# Altium footprint library MEM20850011500A.PcbLib: 1 footprints
Each footprint in its own frame and in the unit in brackets; x right, y up, seen from the top. Pads: shape width x height; smd on the part's side, far side on the other; paste and mask are expansions set on the pad; w line width, h text height; cw(c..) or ccw(c..) is an arc to the next point about the centre after c.
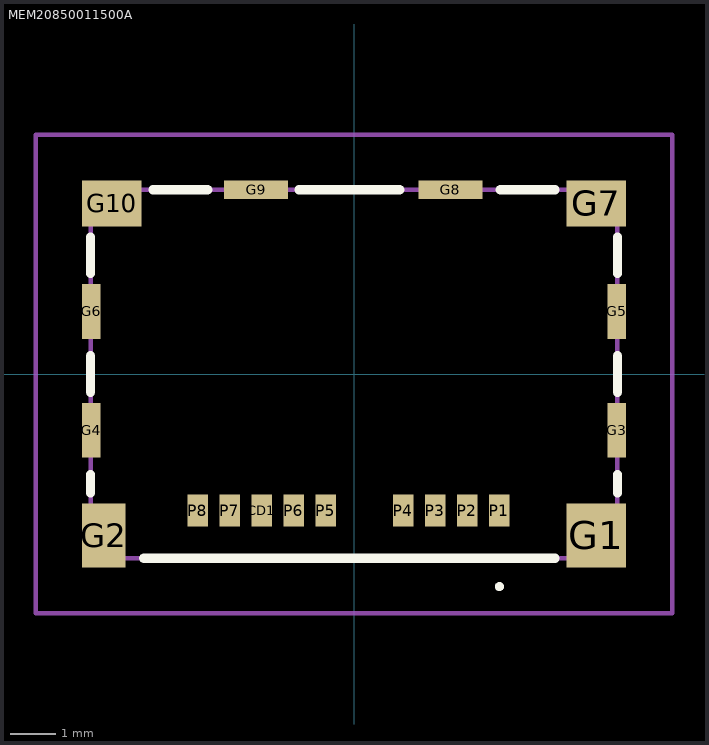
[diagram p0: the footprint, top view; thin cyan lines are the x and y axes]

## MEM20850011500A [mm]
pads (19):
  rect 0.45x0.7 smd: CD1(-2.02,-2.99) P1(3.18,-2.99) P2(2.48,-2.99) P3(1.78,-2.99) P4(1.08,-2.99) P5(-0.62,-2.99) P6(-1.32,-2.99) P7(-2.72,-2.99) P8(-3.42,-2.99)
  rect 1.3x1.4 smd: G1(5.3,-3.53)
  rect 0.95x1.4 smd: G2(-5.475,-3.53)
  rect 0.4x1.2 smd: G3(5.75,-1.23) G4(-5.75,-1.23) G5(5.75,1.37) G6(-5.75,1.37)
  rect 1.3x1 smd: G7(5.3,3.73) G10(-5.3,3.73)
  rect 1.4x0.4 smd: G8(2.11,4.03) G9(-2.14,4.03)
Top Overlay:
  lines w0.1: 3.18,-4.7 3.18,-4.7 ; 3.18,-4.7 ccw(c3.18,-4.65) 3.18,-4.6 ; 3.18,-4.7 cw(c3.18,-4.65) 3.18,-4.6 ; 3.18,-4.6 3.18,-4.6
  lines w0.2: -5.76,-2.6 -5.76,-2.2 ; -5.76,-0.4 -5.76,0.4 ; -5.76,2.2 -5.76,3 ; -4.6,-4.03 4.4,-4.03 ; -4.4,4.03 -3.2,4.03 ; -1.2,4.03 1,4.03 ; 3.2,4.03 4.4,4.03 ; 5.76,-2.6 5.76,-2.2 ; 5.76,-0.4 5.76,0.4 ; 5.76,2.2 5.76,3
Mechanical 15:
  lines w0.1: -5.76,-4.03 5.76,-4.03 5.76,4.03 -5.76,4.03 -5.76,-4.03
Mechanical 20:
  lines w0.1: -6.96,-5.23 6.96,-5.23 6.96,5.23 -6.96,5.23 -6.96,-5.23